# Altium schematic symbol library RMCF1206FT220R.SchLib: 2 symbols
Pins are listed as number, name and electrical type; pins without a type are passive.

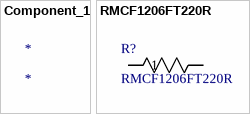
[diagram p0: symbols Component_1 to RMCF1206FT220R]

## Component_1
designator *

## RMCF1206FT220R
designator R?
No Description Available; Manufacturer_Name: Stackpole International; Copyright: Copyright (C) 2025 Ultra Librarian. All rights reserved.; Manufacturer_Part_Number: RMCF1206FT220R
footprint STA_RMCF1206_STP
pins: 1, 2